# EAGLE library part PINHD-2X5 (library FansElectronics-Header)
PIN HEADER
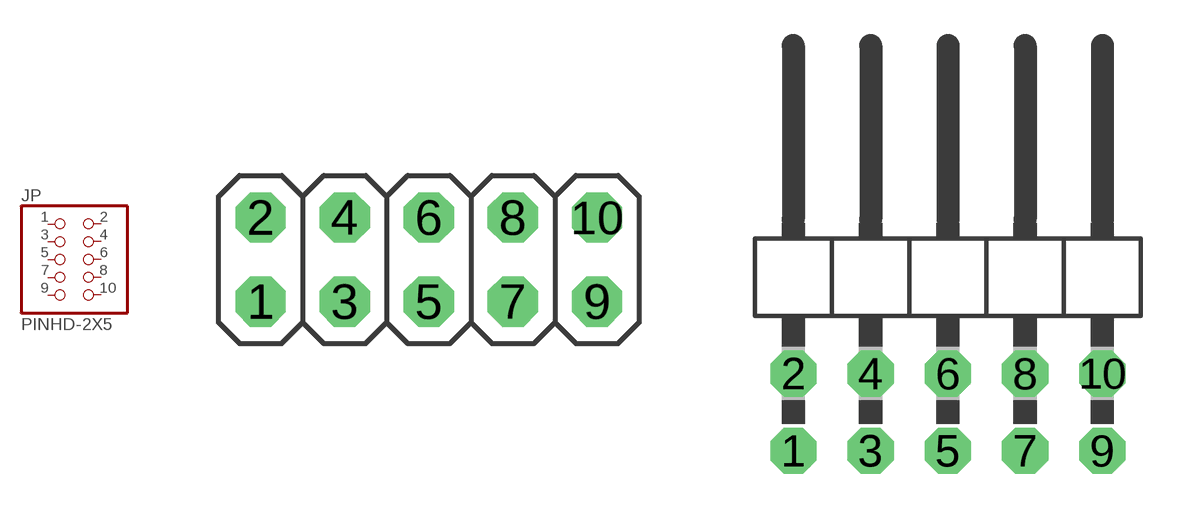
[diagram p28: symbol with the pads of 2X05; footprints 2X05, 2X05/90]

Designator prefix JP

## PINHD-2X5"  [2X05]
1  1  pas
2  2  pas
3  3  pas
4  4  pas
5  5  pas
6  6  pas
7  7  pas
8  8  pas
9  9  pas
10  10  pas

## PINHD-2X5/90  [2X05/90]
Pads as for 2X05

## PINHD-2X5-WITH_COVER  [ML10]
Pads as for 2X05

## PINHD-2X5IDC  [IDE2X5/90]
Pads as for 2X05

## PINHD-2X5/90-SMD  [ML10/90-SMD]
Pads as for 2X05

## Footprint 2X05 (pad centres in mm)
PIN HEADER
drill 1.016 octagon: 1 -5.08,-1.27; 2 -5.08,1.27; 3 -2.54,-1.27; 4 -2.54,1.27; 5 0,-1.27; 6 0,1.27; 7 2.54,-1.27; 8 2.54,1.27; 9 5.08,-1.27; 10 5.08,1.27

## Footprint 2X05/90 (pad centres in mm)
PIN HEADER
drill 1.016 octagon: 1 -5.08,-6.35; 2 -5.08,-3.81; 3 -2.54,-6.35; 4 -2.54,-3.81; 5 0,-6.35; 6 0,-3.81; 7 2.54,-6.35; 8 2.54,-3.81; 9 5.08,-6.35; 10 5.08,-3.81

## Footprint ML10 (pad centres in mm)
drill 0.914 octagon: 1 -5.08,-1.27; 2 -5.08,1.27; 3 -2.54,-1.27; 4 -2.54,1.27; 5 0,-1.27; 6 0,1.27; 7 2.54,-1.27; 8 2.54,1.27; 9 5.08,-1.27; 10 5.08,1.27

## Footprint IDE2X5/90 (pad centres in mm)
smd 1.93 x 3.81: 1 6.191,-4.445; 3 3.651,-4.445; 5 1.111,-4.445; 7 -1.429,-4.445; 9 -3.969,-4.445
smd 1.93 x 3.81 bottom: 2 4.921,-4.445; 4 2.381,-4.445; 6 -0.159,-4.445; 8 -2.699,-4.445; 10 -5.239,-4.445

## Footprint ML10/90-SMD (pad centres in mm)
smd 1.93 x 3.81: 1 5.08,6.985; 3 2.54,6.985; 5 0,6.985; 7 -2.54,6.985; 9 -5.08,6.985
smd 1.93 x 3.81 bottom: 2 5.08,6.985; 4 2.54,6.985; 6 0,6.985; 8 -2.54,6.985; 10 -5.08,6.985